# Altium schematic symbol library SN74HC08PWG4.SchLib: 1 symbol
Pins are listed as number, name and electrical type; pins without a type are passive.

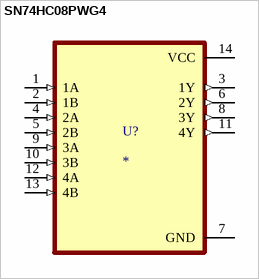
[diagram p0: symbol SN74HC08PWG4]

## SN74HC08PWG4
designator U?
Quadruple 2-input positive-AND gates 14-TSSOP -40 to 85; MF: Texas Instruments; MP: SN74HC08PWG4; Check_prices: https://www.snapeda.com/parts/SN74HC08PWG4/Texas+Instruments/view-part/?ref=eda; Purchase-URL: https://pricing.snapeda.com/search/part/SN74HC08PWG4/?ref=eda; Price: None; Availability: In Stock; Package: TSSOP-14 Texas Instruments; SnapEDA_Link: https://www.snapeda.com/parts/SN74HC08PWG4/Texas+Instruments/view-part/?ref=snap; Value: *
pins: 1 1A (in), 2 1B (in), 3 1Y (out), 4 2A (in), 5 2B (in), 6 2Y (out), 7 GND (power), 8 3Y (out), 9 3A (in), 10 3B (in), 11 4Y (out), 12 4A (in), 13 4B (in), 14 VCC (power)